# Altium footprint library ButtonPad_lib.PcbLib: 3 footprints
Each footprint in its own frame and in the unit in brackets; x right, y up, seen from the top. Pads: shape width x height; smd on the part's side, far side on the other; paste and mask are expansions set on the pad; w line width, h text height; cw(c..) or ccw(c..) is an arc to the next point about the centre after c.
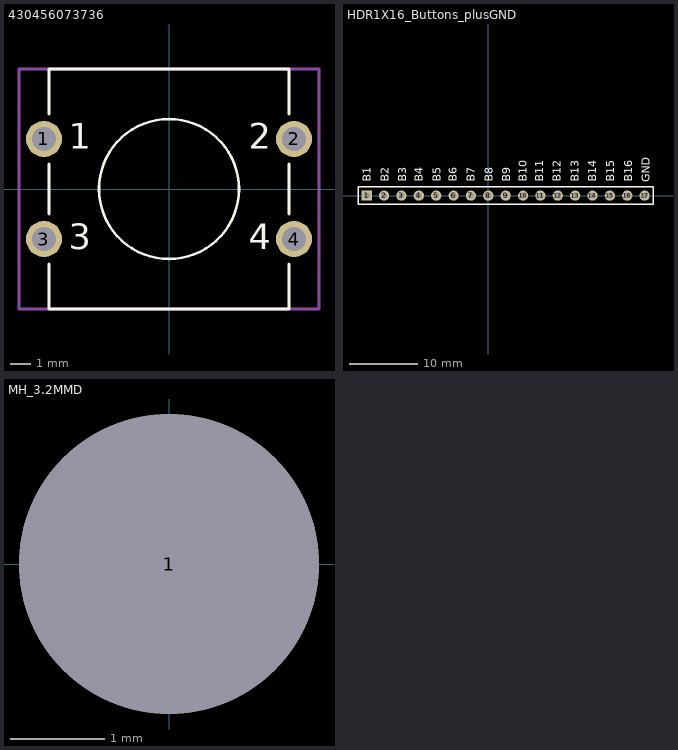
[diagram p0: the footprints below, top view; thin cyan lines are the x and y axes]

## 430456073736 [mm] "12*12mm vertical type,THT,  height 7.3mm, square salmon actuator, 360gf, Bulk"
height 7.3
pads (4):
  round 1.8 hole 1.2: 1(-6.25,2.5) 2(6.25,2.5) 3(-6.25,-2.5) 4(6.25,-2.5)
Top Overlay:
  circle w0.127: c0,0 r3.5
  lines w0.127: -6,-3.75 -6,-6 ; -6,-1.25 -6,1.25 ; -6,3.75 -6,6 ; 6,-3.75 6,-6 ; 6,-1.25 6,1.25 ; 6,3.75 6,6 ; -6,-6 6,-6 ; -6,-6 6,-6 ; -6,6 6,6 ; -6,6 6,6
  text "1" at -5,2 h1.27
  text "2" at 4,2 h1.27
  text "3" at -5,-3 h1.27
  text "4" at 4,-3 h1.27
Mechanical 15:
  lines w0.127: -7.5,-6 7.5,-6 7.5,6 -7.5,6 -7.5,-6
3D body "4304x60737x6.stp": height 7.4, standoff -3.4, extent -6.985,-6 6.986,6

## HDR1X16_Buttons_plusGND [mm]
pads (17):
  rect 1.5x1.5 hole 0.9: 1(-17.8,0)
  round 1.5 hole 0.9: 2(-15.26,0) 3(-12.72,0) 4(-10.18,0) 5(-7.64,0) 6(-5.1,0) 7(-2.56,0) 8(-0.02,0) 9(2.52,0) 10(5.06,0) 11(7.6,0) 12(10.14,0) 13(12.68,0) 14(15.22,0) 15(17.76,0) 16(20.3,0) 17(22.84,0)
Top Overlay:
  lines w0.2: -19.07,-1.27 24.13,-1.27 24.13,1.27 -19.07,1.27 -19.07,-1.27
  text "GND" at 23.599,1.934 h1.2
  text "B16" at 21,2 h1.2
  text "B15" at 18.4,2 h1.2
  text "B14" at 15.8,2 h1.2
  text "B13" at 13.2,2 h1.2
  text "B11" at 8,2 h1.2
  text "B12" at 10.6,2 h1.2
  text "B9" at 3.2,2 h1.2
  text "B10" at 5.6,2 h1.2
  text "B8" at 0.6,2 h1.2
  text "B6" at -4.6,2 h1.2
  text "B7" at -2,2 h1.2
  text "B4" at -9.6,2 h1.2
  text "B5" at -7,2 h1.2
  text "B3" at -12,2 h1.2
  text "B1" at -17.2,2 h1.2
  text "B2" at -14.6,2 h1.2

## MH_3.2MMD [mm]
pads (1):
  round 3.2 hole 3.2 unplated: 1(0,0)